# Altium schematic symbol library Schlib1.SchLib: 75 symbols (part 3 of 3)
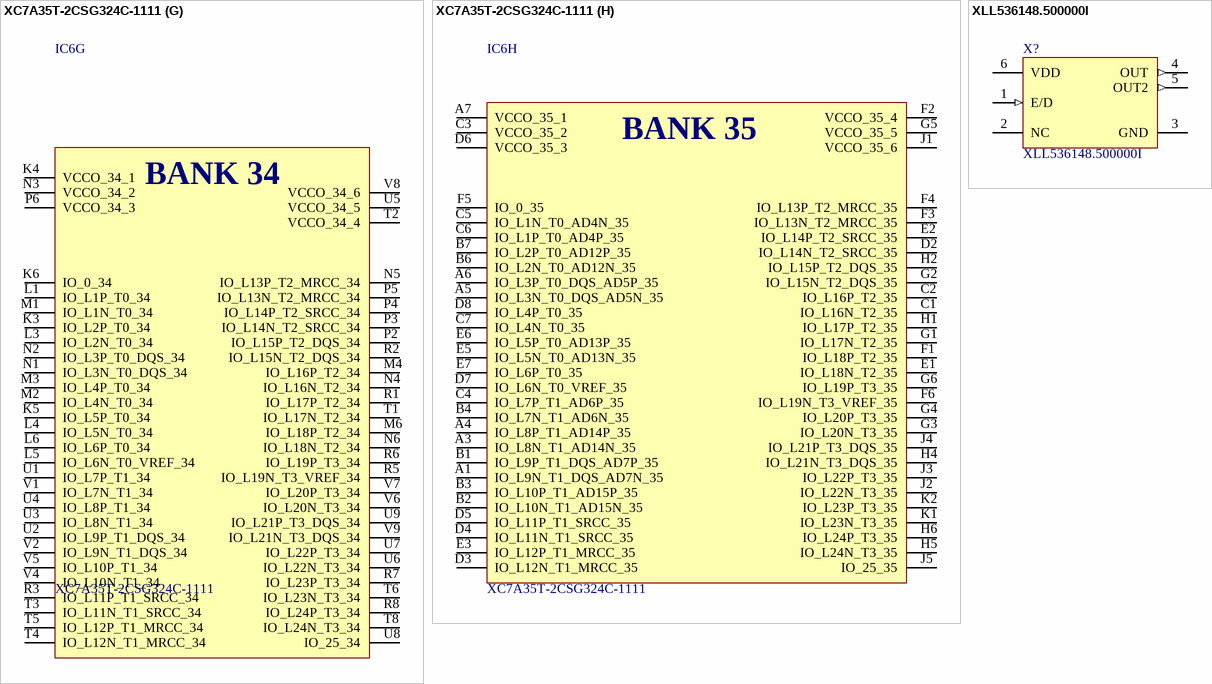
[diagram p5: symbols XC7A35T-2CSG324C-1111 to XLL536148.500000I]

## XC7A35T-2CSG324C-1111
designator IC6
Integrated Circuit; Manufacturer_Name: AMD; Datasheet Link: https://www.xilinx.com/support/documentation/data_sheets/ds181_Artix_7_Data_Sheet.pdf; Height: 1.5mm; Manufacturer_Part_Number: XC7A35T-2CSG324C; Mouser Part Number: 217-XC7A35T-2CSG324C; Mouser Price/Stock: https://www.mouser.co.uk/ProductDetail/AMD-Xilinx/XC7A35T-2CSG324C?qs=rrS6PyfT74fMA9%2F3WtPZmw%3D%3D
footprint BGA324C80P18X18_1500X1500X150
part A pins: A2 GND, A12 GND, B5 GND, B15 GND, C8 GND, C18 GND, D1 GND, D11 GND, E4 GND, E14 GND, F7 GND, F8 VCCINT, F9 GND, F10 VCCBRAM_1, F11 GND, F12 VCCAUX, F17 GND, G7 VCCINT, G8 GND, G9 VCCINT, G10 GND, G11 VCCBRAM_2, G12 GND, H3 GND, H7 GND, H8 VCCINT, H9 GNDADC_0, H10 VCCADC_0, H11 GND, H12 VCCAUX, H13 GND, J6 GND, J7 VCCINT, J8 GND, J9 VREFN_0, J10 VP_0, J11 VCCINT, J12 GND, J16 GND, K7 GND, K8 VCCINT, K9 VN_0, K10 VREFP_0, K11 GND, K12 VCCAUX, L2 GND, L7 VCCINT, L8 GND, L9 DXN_0, L10 DXP_0, L11 VCCINT, L12 GND, M5 GND, M7 GND, M8 VCCINT, M9 GND, M10 VCCINT, M11 GND, M12 VCCAUX, M15 GND, N7 VCCINT, N8 GND, N9 VCCINT, N10 GND, N11 VCCINT, N12 GND, N18 GND, P1 GND, R4 GND, R14 GND, T7 GND, T17 GND, U10 GND, V3 GND, V13 GND
part B pins: E8 VCCBATT_0, E9 CCLK_0, P7 INIT_B_0, P8 CFGBVS_0, P9 PROGRAM_B_0, P10 DONE_0, P11 M2_0, P12 M0_0, P13 M1_0, R9 VCCO_0
part C pins: E10 TCK_0, E11 TDI_0, E12 TMS_0, E13 TDO_0
part D pins: A8 IO_L12N_T1_MRCC_16, A9 IO_L14N_T2_SRCC_16, A10 IO_L14P_T2_SRCC_16, B8 IO_L12P_T1_MRCC_16, B9 IO_L11N_T1_SRCC_16, B10 VCCO_16, C9 IO_L11P_T1_SRCC_16, C10 IO_L13N_T2_MRCC_16, C11 IO_L13P_T2_MRCC_16, D9 IO_L6N_T0_VREF_16, D10 IO_L19N_T3_VREF_16
part E pins: K17 IO_L1P_T0_D00_MOSI_14, K18 IO_L1N_T0_D01_DIN_14, L13 IO_L6P_T0_FCS_B_14, L14 IO_L2P_T0_D02_14, L15 IO_L3P_T0_DQS_PUDC_B_14, L16 IO_L3N_T0_DQS_EMCCLK_14, L17 VCCO_14_1, L18 IO_L4P_T0_D04_14, M13 IO_L6N_T0_D08_VREF_14, M14 IO_L2N_T0_D03_14, M16 IO_L10P_T1_D14_14, M17 IO_L10N_T1_D15_14, M18 IO_L4N_T0_D05_14, N13 VCCO_14_2, N14 IO_L8P_T1_D11_14, N15 IO_L11P_T1_SRCC_14, N16 IO_L11N_T1_SRCC_14, N17 IO_L9P_T1_DQS_14, P14 IO_L8N_T1_D12_14, P15 IO_L13P_T2_MRCC_14, P16 VCCO_14_3, P17 IO_L12P_T1_MRCC_14, P18 IO_L9N_T1_DQS_D13_14, R10 IO_25_14, R11 IO_0_14, R12 IO_L5P_T0_D06_14, R13 IO_L5N_T0_D07_14, R15 IO_L13N_T2_MRCC_14, R16 IO_L15P_T2_DQS_RDWR_B_14, R17 IO_L12N_T1_MRCC_14, R18 IO_L7P_T1_D09_14, T9 IO_L24P_T3_A01_D17_14, T10 IO_L24N_T3_A00_D16_14, T11 IO_L19P_T3_A10_D26_14, T12 VCCO_14_4, T13 IO_L23P_T3_A03_D19_14, T14 IO_L14P_T2_SRCC_14, T15 IO_L14N_T2_SRCC_14, T16 IO_L15N_T2_DQS_DOUT_CSO_B_14, T18 IO_L7N_T1_D10_14, U11 IO_L19N_T3_A09_D25_VREF_14, U12 IO_L20P_T3_A08_D24_14, U13 IO_L23N_T3_A02_D18_14, U14 IO_L22P_T3_A05_D21_14, U15 VCCO_14_5, U16 IO_L18P_T2_A12_D28_14, U17 IO_L17P_T2_A14_D30_14, U18 IO_L17N_T2_A13_D29_14, V10 IO_L21P_T3_DQS_14, V11 IO_L21N_T3_DQS_A06_D22_14, V12 IO_L20N_T3_A07_D23_14, V14 IO_L22N_T3_A04_D20_14, V15 IO_L16P_T2_CSI_B_14, V16 IO_L16N_T2_A15_D31_14, V17 IO_L18N_T2_A11_D27_14, V18 VCCO_14_6
part F pins: A11 IO_L4N_T0_15, A13 IO_L9P_T1_DQS_AD3P_15, A14 IO_L9N_T1_DQS_AD3N_15, A15 IO_L8P_T1_AD10P_15, A16 IO_L8N_T1_AD10N_15, A17 VCCO_15_1, A18 IO_L10N_T1_AD11N_15, B11 IO_L4P_T0_15, B12 IO_L3N_T0_DQS_AD1N_15, B13 IO_L2P_T0_AD8P_15, B14 IO_L2N_T0_AD8N_15, B16 IO_L7P_T1_AD2P_15, B17 IO_L7N_T1_AD2N_15, B18 IO_L10P_T1_AD11P_15, C12 IO_L3P_T0_DQS_AD1P_15, C13 VCCO_15_2, C14 IO_L1N_T0_AD0N_15, C15 IO_L12N_T1_MRCC_15, C16 IO_L20P_T3_A20_15, C17 IO_L20N_T3_A19_15, D12 IO_L6P_T0_15, D13 IO_L6N_T0_VREF_15, D14 IO_L1P_T0_AD0P_15, D15 IO_L12P_T1_MRCC_15, D16 VCCO_15_3, D17 IO_L16N_T2_A27_15, D18 IO_L21N_T3_DQS_A18_15, E15 IO_L11P_T1_SRCC_15, E16 IO_L11N_T1_SRCC_15, E17 IO_L16P_T2_A28_15, E18 IO_L21P_T3_DQS_15, F13 IO_L5P_T0_AD9P_15, F14 IO_L5N_T0_AD9N_15, F15 IO_L14P_T2_SRCC_15, F16 IO_L14N_T2_SRCC_15, F18 IO_L22N_T3_A16_15, G13 IO_0_15, G14 IO_L15N_T2_DQS_ADV_B_15, G15 VCCO_15_4, G16 IO_L13N_T2_MRCC_15, G17 IO_L18N_T2_A23_15, G18 IO_L22P_T3_A17_15, H14 IO_L15P_T2_DQS_15, H15 IO_L19N_T3_A21_VREF_15, H16 IO_L13P_T2_MRCC_15, H17 IO_L18P_T2_A24_15, H18 VCCO_15_5, J13 IO_L17N_T2_A25_15, J14 IO_L19P_T3_A22_15, J15 IO_L24N_T3_RS0_15, J17 IO_L23P_T3_FOE_B_15, J18 IO_L23N_T3_FWE_B_15, K13 IO_L17P_T2_A26_15, K14 VCCO_15_6, K15 IO_L24P_T3_RS1_15, K16 IO_25_15
part G pins: K3 IO_L2P_T0_34, K4 VCCO_34_1, K5 IO_L5P_T0_34, K6 IO_0_34, L1 IO_L1P_T0_34, L3 IO_L2N_T0_34, L4 IO_L5N_T0_34, L5 IO_L6N_T0_VREF_34, L6 IO_L6P_T0_34, M1 IO_L1N_T0_34, M2 IO_L4N_T0_34, M3 IO_L4P_T0_34, M4 IO_L16P_T2_34, M6 IO_L18P_T2_34, N1 IO_L3N_T0_DQS_34, N2 IO_L3P_T0_DQS_34, N3 VCCO_34_2, N4 IO_L16N_T2_34, N5 IO_L13P_T2_MRCC_34, N6 IO_L18N_T2_34, P2 IO_L15P_T2_DQS_34, P3 IO_L14N_T2_SRCC_34, P4 IO_L14P_T2_SRCC_34, P5 IO_L13N_T2_MRCC_34, P6 VCCO_34_3, R1 IO_L17P_T2_34, R2 IO_L15N_T2_DQS_34, R3 IO_L11P_T1_SRCC_34, R5 IO_L19N_T3_VREF_34, R6 IO_L19P_T3_34, R7 IO_L23P_T3_34, R8 IO_L24P_T3_34, T1 IO_L17N_T2_34, T2 VCCO_34_4, T3 IO_L11N_T1_SRCC_34, T4 IO_L12N_T1_MRCC_34, T5 IO_L12P_T1_MRCC_34, T6 IO_L23N_T3_34, T8 IO_L24N_T3_34, U1 IO_L7P_T1_34, U2 IO_L9P_T1_DQS_34, U3 IO_L8N_T1_34, U4 IO_L8P_T1_34, U5 VCCO_34_5, U6 IO_L22N_T3_34, U7 IO_L22P_T3_34, U8 IO_25_34, U9 IO_L21P_T3_DQS_34, V1 IO_L7N_T1_34, V2 IO_L9N_T1_DQS_34, V4 IO_L10N_T1_34, V5 IO_L10P_T1_34, V6 IO_L20N_T3_34, V7 IO_L20P_T3_34, V8 VCCO_34_6, V9 IO_L21N_T3_DQS_34
part H pins: A1 IO_L9N_T1_DQS_AD7N_35, A3 IO_L8N_T1_AD14N_35, A4 IO_L8P_T1_AD14P_35, A5 IO_L3N_T0_DQS_AD5N_35, A6 IO_L3P_T0_DQS_AD5P_35, A7 VCCO_35_1, B1 IO_L9P_T1_DQS_AD7P_35, B2 IO_L10N_T1_AD15N_35, B3 IO_L10P_T1_AD15P_35, B4 IO_L7N_T1_AD6N_35, B6 IO_L2N_T0_AD12N_35, B7 IO_L2P_T0_AD12P_35, C1 IO_L16N_T2_35, C2 IO_L16P_T2_35, C3 VCCO_35_2, C4 IO_L7P_T1_AD6P_35, C5 IO_L1N_T0_AD4N_35, C6 IO_L1P_T0_AD4P_35, C7 IO_L4N_T0_35, D2 IO_L14N_T2_SRCC_35, D3 IO_L12N_T1_MRCC_35, D4 IO_L11N_T1_SRCC_35, D5 IO_L11P_T1_SRCC_35, D6 VCCO_35_3, D7 IO_L6N_T0_VREF_35, D8 IO_L4P_T0_35, E1 IO_L18N_T2_35, E2 IO_L14P_T2_SRCC_35, E3 IO_L12P_T1_MRCC_35, E5 IO_L5N_T0_AD13N_35, E6 IO_L5P_T0_AD13P_35, E7 IO_L6P_T0_35, F1 IO_L18P_T2_35, F2 VCCO_35_4, F3 IO_L13N_T2_MRCC_35, F4 IO_L13P_T2_MRCC_35, F5 IO_0_35, F6 IO_L19N_T3_VREF_35, G1 IO_L17N_T2_35, G2 IO_L15N_T2_DQS_35, G3 IO_L20N_T3_35, G4 IO_L20P_T3_35, G5 VCCO_35_5, G6 IO_L19P_T3_35, H1 IO_L17P_T2_35, H2 IO_L15P_T2_DQS_35, H4 IO_L21N_T3_DQS_35, H5 IO_L24N_T3_35, H6 IO_L24P_T3_35, J1 VCCO_35_6, J2 IO_L22N_T3_35, J3 IO_L22P_T3_35, J4 IO_L21P_T3_DQS_35, J5 IO_25_35, K1 IO_L23N_T3_35, K2 IO_L23P_T3_35
part D text: BANK 16
part E text: BANK 14
part F text: BANK 15
part G text: BANK 34
part H text: BANK 35

## XLL536148.500000I
designator X?
Oscillator, 148.5Mhz, Lvds, 5Mm X 3.2Mm Rohs Compliant: Yes; Min Input Voltage: 3.135V; Max Output Frequency: 999.9MHz; Max Input Voltage: 3.465V; ComponentLink1Description: Manufacturer's Website; ComponentLink2Description: Datasheet URL; Mount: Surface Mount; Max Operating Temperature: 85°C; ComponentLink3Description: Manufacturer's Package Drawing; RoHS: Compliant; Number of Pins: 6; ComponentLink2URL: https://octopart.com/cad-content/api/get-model-datasheet/15189/107081581; Output Type: LVDS; Case/Package: CLCC; ComponentLink1URL: http://www.renesas.com; HelpURL: https://octopart.com/cad-content/api/get-model-datasheet/15189/107081581; Min Operating Temperature: -40°C; ComponentLink3URL: https://www.renesas.com/en/document/psc/js6-package-outline-50-x-32-mm-body-11-mm-thick; Height: 1.2mm
footprint JS6_MFG (Recommended Land Pattern)
pins: 1 E/D (in), 2 NC, 3 GND (power), 4 OUT (out), 5 OUT2 (out), 6 VDD (power)